# Altium footprint library Resistors.PcbLib: 20 footprints (part 2 of 2)
Each footprint in its own frame and in the unit in brackets; x right, y up, seen from the top. Pads: shape width x height; smd on the part's side, far side on the other; paste and mask are expansions set on the pad; w line width, h text height; cw(c..) or ccw(c..) is an arc to the next point about the centre after c.
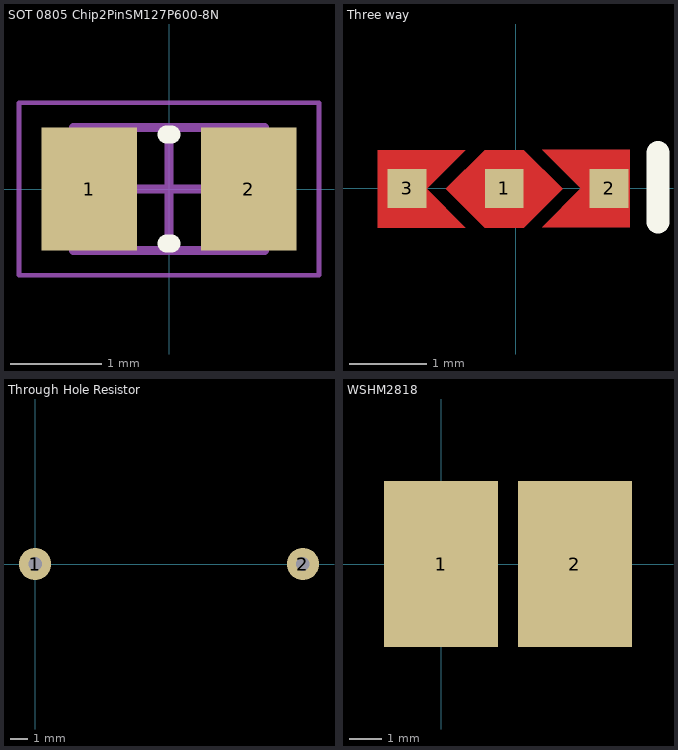
[diagram p1: the footprints below, top view; thin cyan lines are the x and y axes]

## SOT 0805 Chip2PinSM127P600-8N [mm] "select on test component"
height 0.51
pads (2):
  rect 1.05x1.35 smd: 1(-0.875,0) 2(0.875,0)
Top Overlay:
  lines w0.2: -0.025,-0.6 0.025,-0.6 ; -0.025,0.6 0.025,0.6
Mechanical 13:
  lines w0.1: -1.05,-0.675 1.05,-0.675 1.05,0.675 -1.05,0.675 -1.05,-0.675
Mechanical 15:
  lines w0.05: -1.65,-0.95 1.65,-0.95 1.65,0.95 -1.65,0.95 -1.65,-0.95
  lines w0.1: -0.5,0 0.5,0 ; 0,-0.5 0,0.5
3D body "SOT 0805 Chip2PinSM127P600-8N.step": height 0.51, standoff 0, extent -1.05,-0.675 1.05,0.675

## Three way [mm] "Three way selection"
pads (3):
  rect 0.5x0.5 smd: 1(-0.15,0) 2(1.2,0) 3(-1.4,0)
Top Layer:
  region: -0.65,0.492 -1.15,-0.008 -0.65,-0.508 -1.775,-0.508 -1.775,0.492
  region: -0.4,-0.508 0.1,-0.508 0.6,-0.008 0.1,0.492 -0.4,0.492 -0.9,-0.008
  region: 0.337,-0.5 0.837,0 0.337,0.5 1.462,0.5 1.462,-0.5
Top Overlay:
  lines w0.3: 1.829,-0.432 1.829,0.457
Top Solder:
  region: -2.032,-0.608 1.678,-0.608 1.678,0.592 -2.032,0.592

## Through Hole Resistor [mm] "Through Hole Resistor"
pads (2):
  round 1.8 hole 0.762: 1(0,0) 2(15,0)

## WSHM2818 [mm] "Vishey WSHM2818 series of resistors"
pads (2):
  rect 3.5x5.1 smd: 1(0,0) 2(4.11,0)
3D body "WSHM2818.stp": height 1.5, standoff 0, extent -1.518,-2.286 5.582,2.314